# Altium integrated library IRF640.IntLib: 1 symbol
Pins are listed as number, name and electrical type; pins without a type are passive.

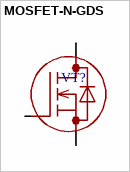
[diagram p0: symbol MOSFET-N-GDS]

## MOSFET-N-GDS
designator VT?
footprint TO-220(bend2)
footprint TO-220_Bended_Rad
pins: 1 G, 2 D, 3 S